# EAGLE library part PB1000 (library powerboost)
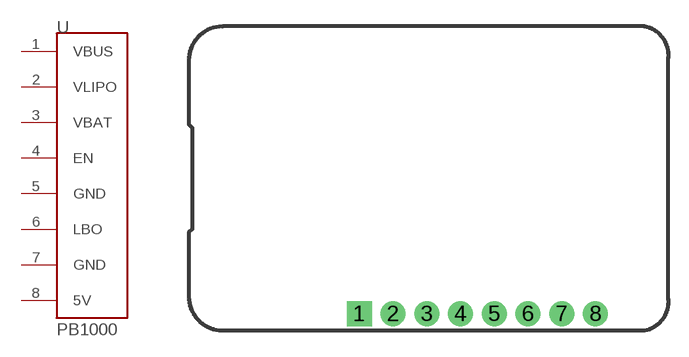
[diagram p0: symbol with the pads of PB1000; footprint PB1000]

Designator prefix -

## PB1000  [PB1000]
1  VBUS
2  VLIPO
3  VBAT
4  EN
5  GND
6  LBO
7  GND
8  5V

## Footprint PB1000 (pad centres in mm)
drill 1.016 pad 1.88 square: 1 12.827,1.27
drill 1.016 pad 1.88: 2 15.367,1.27; 3 17.907,1.27; 4 20.447,1.27; 5 22.987,1.27; 6 25.527,1.27; 7 28.067,1.27; 8 30.607,1.27